# EAGLE library part DS18B20U+ (library DigiKey)
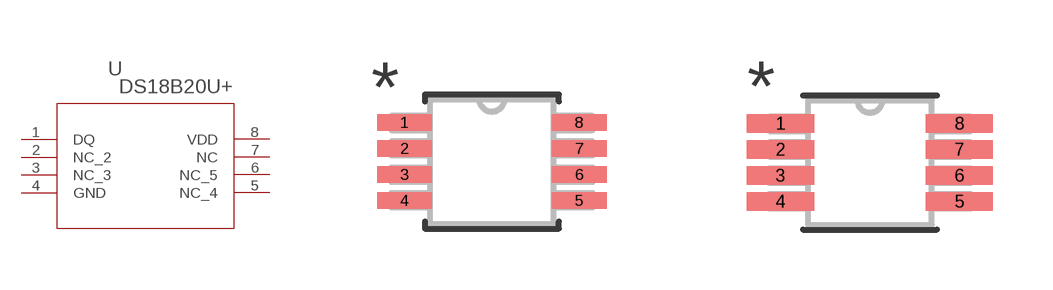
[diagram p0: symbol with the pads of 21-0036K; footprints 21-0036K, 21-0036K-M]

Designator prefix U

## DS18B20U+ (MANUFACTURER_PART_NUMBER: DS18B20U+; VENDOR: Maxim Integrated Products)  [21-0036K]
1  DQ
2  NC_2  nc
3  NC_3  nc
4  GND  pwr
5  NC_4  nc
6  NC_5  nc
7  NC  nc
8  VDD  pwr

## DS18B20U+21-0036K-M (MANUFACTURER_PART_NUMBER: DS18B20U+; VENDOR: Maxim Integrated Products)  [21-0036K-M]
Pads as for 21-0036K

## DS18B20U+21-0036K-L (MANUFACTURER_PART_NUMBER: DS18B20U+; VENDOR: Maxim Integrated Products)  [21-0036K-L]
Pads as for 21-0036K

## Footprint 21-0036K (pad centres in mm)
smd 1.372 x 0.406: 1 -2.184,0.975; 2 -2.184,0.325; 3 -2.184,-0.325; 4 -2.184,-0.975; 5 2.184,-0.975; 6 2.184,-0.325; 7 2.184,0.325; 8 2.184,0.975

## Footprint 21-0036K-M (pad centres in mm)
smd 1.676 x 0.457: 1 -2.235,0.975; 2 -2.235,0.325; 3 -2.235,-0.325; 4 -2.235,-0.975; 5 2.235,-0.975; 6 2.235,-0.325; 7 2.235,0.325; 8 2.235,0.975

## Footprint 21-0036K-L (pad centres in mm)
smd 1.067 x 0.356: 1 -2.134,0.975; 2 -2.134,0.325; 3 -2.134,-0.325; 4 -2.134,-0.975; 5 2.134,-0.975; 6 2.134,-0.325; 7 2.134,0.325; 8 2.134,0.975